# Altium footprint library CB3-ECB_PCB.PcbLib: 45 footprints (part 2 of 3)
Each footprint in its own frame and in the unit in brackets; x right, y up, seen from the top. Pads: shape width x height; smd on the part's side, far side on the other; paste and mask are expansions set on the pad; w line width, h text height; cw(c..) or ccw(c..) is an arc to the next point about the centre after c.
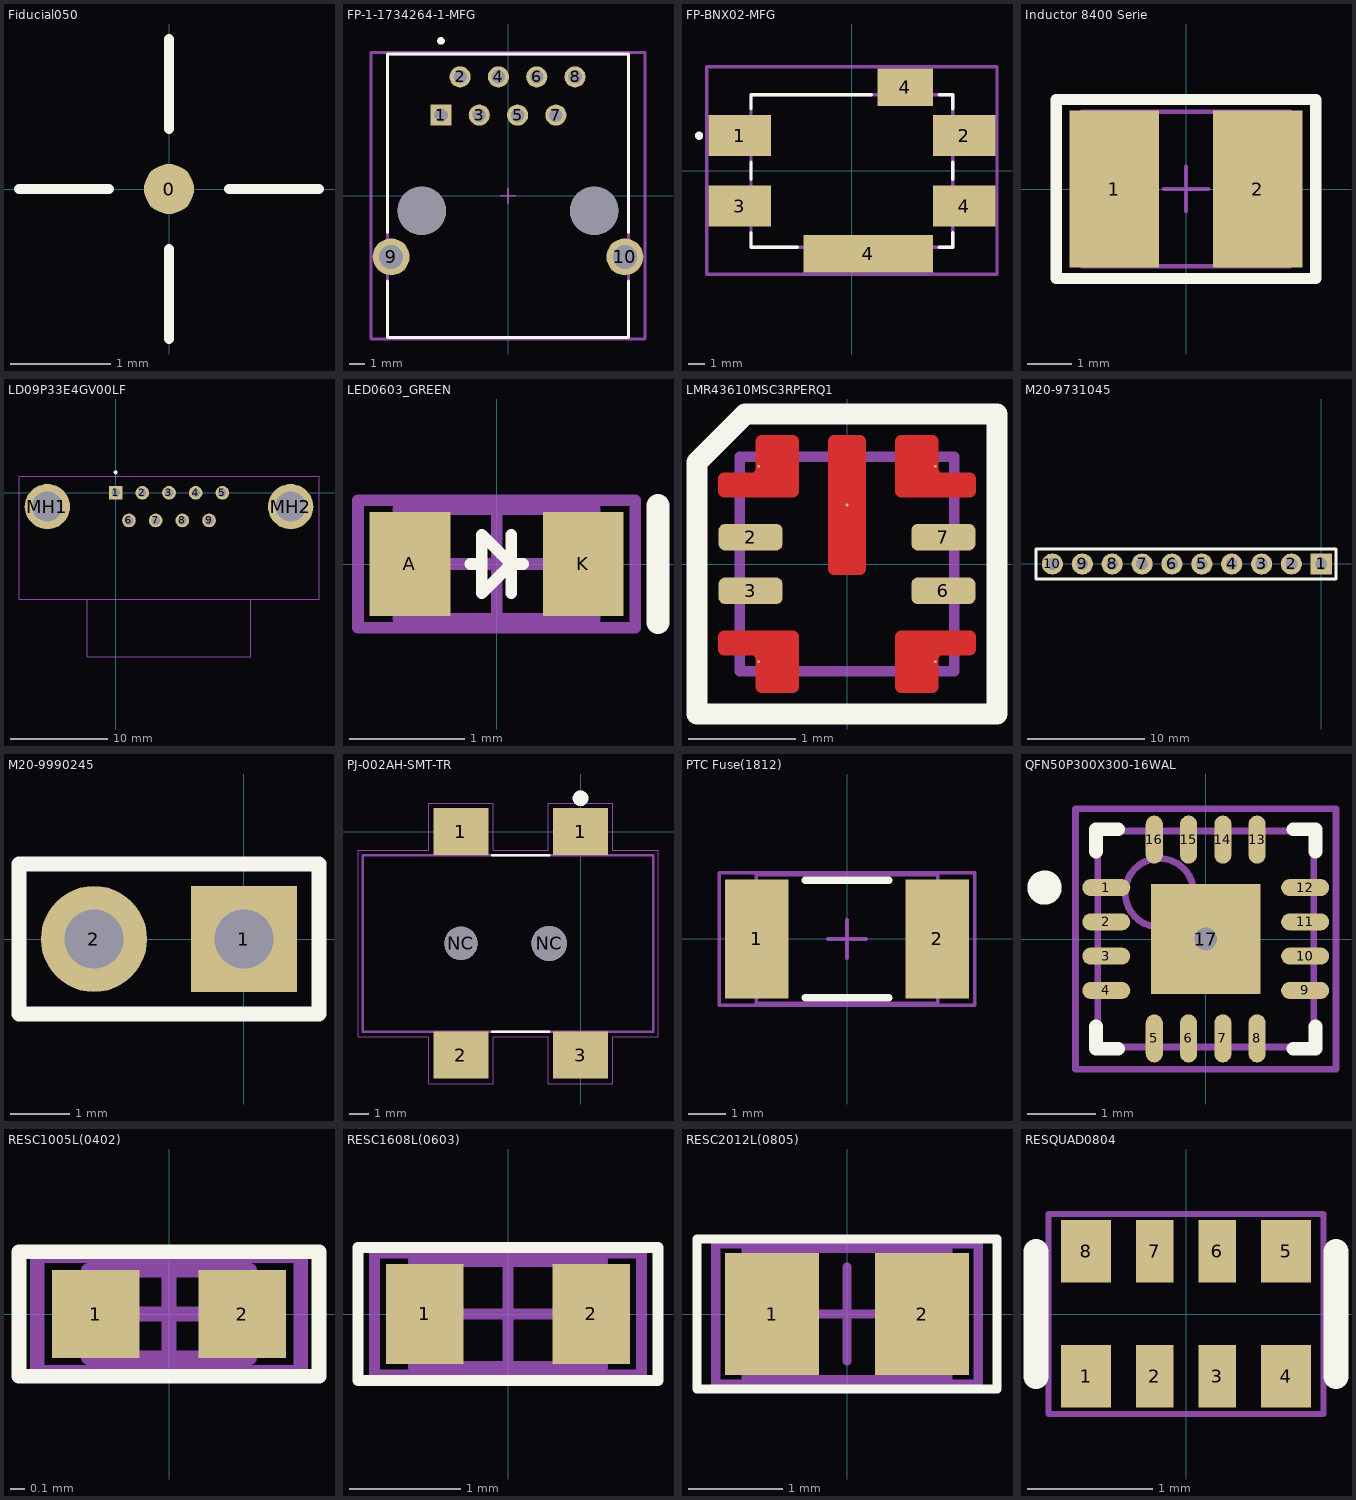
[diagram p1: the footprints below, top view; thin cyan lines are the x and y axes]

## Fiducial050 [mm] "Fiducial for pick&place, Diameter 0.5mm"
pads (1):
  round 0.5 smd mask+0.5: 0(0,0)
Top Overlay:
  lines w0.1: -1.5,0 -0.6,0 ; 0,-1.5 0,-0.6 ; 0,0.6 0,1.5 ; 0.6,0 1.5,0

## FP-1-1734264-1-MFG [mm]
pads (12):
  rect 1.4x1.4 hole 0.9 paste-2539.97 mask+0: 1(-4.445,5.35)
  round 1.4 hole 0.9 paste-2539.97 mask+0: 2(-3.175,7.89) 3(-1.905,5.35) 4(-0.635,7.89) 5(0.635,5.35) 6(1.905,7.89) 7(3.175,5.35) 8(4.445,7.89)
  round 2.45 hole 1.6 paste-2539.97 mask+0: 9(-7.75,-4.05) 10(7.75,-4.05)
  round 3.2 hole 3.2 unplated paste-2539.97 mask+0: ""(-5.715,-1) ""(5.715,-1)
Top Overlay:
  circle w0.25: c-4.445,10.275 r0.125
  lines w0.2: -8,-5.65 -8,-9.4 8,-9.4 8,-5.65 ; -8,-2.45 -8,9.4 8,9.4 8,-2.45
Top Assembly:
  lines w0.2: -9.075,-9.5 -9.075,9.5 9.075,9.5 9.075,-9.5 -9.075,-9.5
  text ".Designator" at 0,0.188 h1
Top 3D Body:
  lines w0.2: -8,-9.4 -8,9.4 8,9.4 8,-9.4 -8,-9.4
Top Courtyard:
  lines w0.2: -9.075,-9.5 -9.075,9.5 9.075,9.5 9.075,-9.5 -9.075,-9.5
Top Component Center:
  lines w0.1: -0.5,0 0.5,0 ; 0,-0.5 0,0.5
3D body "Conn_TE_Connectivity_1-1734264-1_eec.STEP": height 0.25, standoff 0, extent -9.075,-9.5 9.075,9.5

## FP-BNX02-MFG [mm] "BNX02 Package"
pads (6):
  rect 3.8x2.5 smd paste+0 mask+0: 1(-6.85,2.15) 2(6.85,2.15) 3(-6.85,-2.15) 4(6.85,-2.15)
  rect 7.9x2.3 smd paste+0 mask+0: 4(1,-5.05)
  rect 3.4x2.3 smd paste+0 mask+0: 4(3.25,5.1)
Top Overlay:
  circle w0.25: c-9.325,2.15 r0.125
  lines w0.2: -6.15,-3.775 -6.15,-4.65 -3.325,-4.65 ; -6.15,-0.525 -6.15,0.525 ; -6.15,3.775 -6.15,4.65 1.175,4.65 ; 5.325,-4.65 6.15,-4.65 6.15,-3.775 ; 5.325,4.65 6.15,4.65 6.15,3.775 ; 6.15,-0.525 6.15,0.525
Mechanical 13:
  lines w0.2: -6.15,-4.65 6.15,-4.65 6.15,4.65 -6.15,4.65 -6.15,-4.65
Mechanical 15:
  lines w0.2: -8.85,-6.3 -8.85,6.35 8.85,6.35 8.85,-6.3 -8.85,-6.3
3D body "Filter_Murata_BNX029-01K_eec.STEP": height 3.35, standoff 0, extent -6.05,-4.55 6.05,4.55

## Inductor 8400 Serie [mm] "Precision Wire Wound Inductor, 2-Leads, Body 4.50x3.30mm"
height 2.6
pads (2):
  rect 2x3.5 smd: 1(-1.6,0) 2(1.6,0)
Top Overlay:
  lines w0.254: -2.9,-2 2.9,-2 2.9,2 -2.9,2 -2.9,-2
Mechanical 13:
  lines w0.1: -2.325,-1.725 -2.325,1.725 2.325,1.725 2.325,-1.725 -2.325,-1.725
Mechanical 15:
  lines w0.05: -2.9,-2 -2.9,2 2.9,2 2.9,-2 -2.9,-2
  lines w0.1: -0.5,0 0.5,0 ; 0,-0.5 0,0.5
3D body: height 2.6, standoff 0, extent -2.325,-1.725 2.325,1.725

## LD09P33E4GV00LF [mm] "Conn D-Subminiature PIN 9 POS 2.74mm Solder RA Thru-Hole 9 Terminal 1 Port"
pads (11):
  rect 1.4x1.4 hole 0.9: 1(0,0)
  round 1.4 hole 0.9: 2(2.74,0) 3(5.48,0) 4(8.22,0) 5(10.96,0) 6(1.37,-2.84) 7(4.11,-2.84) 8(6.85,-2.84) 9(9.59,-2.84)
  round 4.65 hole 3.1: MH1(-7.015,-1.42) MH2(17.975,-1.42)
Top Overlay:
  circle w0.2: c0,2.1 r0.1
Mechanical 15:
  lines w0.1: -2.915,-10.92 -2.915,-16.82 13.875,-16.82 13.875,-10.92 ; -9.925,-10.92 20.885,-10.92 20.885,1.68 -9.925,1.68 -9.925,-10.92
3D body "LD09P33E4GV00LF.stp": height 12.55, standoff -3.2, extent -9.944,-17.15 20.866,1.7

## LED0603_GREEN [mm] "General LED (green) 0603 Footprint"
height 0.6
pads (2):
  rect 0.7x0.9 smd: A(-0.75,0) K(0.75,0)
Top Overlay:
  lines w0.1: -0.229,0 -0.127,0 ; 0.127,-0.254 0.127,0 ; 0.127,0.254 0.127,0 ; 0.229,0 0.127,0 ; 0.127,0 -0.127,-0.254 -0.127,0.254 0.127,0
  lines w0.2: 1.397,-0.508 1.397,0.508
Mechanical 13:
  lines w0.1: -0.85,-0.475 -0.85,0.475 0.85,0.475 0.85,-0.475 -0.85,-0.475
Mechanical 15:
  lines w0.1: -0.475,0 0.475,0 ; 0,-0.475 0,0.475 ; -1.2,-0.55 -1.2,0.55 1.2,0.55 1.2,-0.55 -1.2,-0.55
3D body: height 0.6, standoff 0, extent -0.85,-0.475 0.85,0.475

## LMR43610MSC3RPERQ1 [mm]
height 1
pads (9):
  round 0.025 smd paste+0: 1(-0.825,0.913) 8(0.825,0.913) 9(0,0.55)
  rrect50% 0.6x0.25 smd paste+0: 2(-0.9,0.25) 3(-0.9,-0.25) 6(0.9,-0.25) 7(0.9,0.25)
  round 0.025 smd: 4(-0.825,-0.913) 5(0.825,-0.913)
Top Layer:
  region: -1.2,-0.675 -1.2,-0.8 -1.2,-0.81 -1.192,-0.828 -1.178,-0.842 -1.16,-0.85 -1.15,-0.85 -0.9,-0.85 -0.89,-0.851 -0.872,-0.858 -0.858,-0.872 -0.851,-0.89 -0.85,-0.9 -0.85,-1.15 -0.85,-1.16 -0.842,-1.178 -0.828,-1.192 -0.81,-1.2 -0.8,-1.2 -0.5,-1.2 -0.49,-1.2 -0.472,-1.192 -0.458,-1.178 -0.45,-1.16 -0.45,-1.15 -0.45,-0.675 -0.45,-0.665 -0.458,-0.647 -0.472,-0.633 -0.49,-0.625 -0.5,-0.625 -1.15,-0.625 -1.16,-0.625 -1.178,-0.633 -1.192,-0.647 -1.2,-0.665
  region: 1.2,-0.675 1.2,-0.8 1.2,-0.81 1.192,-0.828 1.178,-0.842 1.16,-0.85 1.15,-0.85 0.9,-0.85 0.89,-0.851 0.872,-0.858 0.858,-0.872 0.851,-0.89 0.85,-0.9 0.85,-1.15 0.85,-1.16 0.842,-1.178 0.828,-1.192 0.81,-1.2 0.8,-1.2 0.5,-1.2 0.49,-1.2 0.472,-1.192 0.458,-1.178 0.45,-1.16 0.45,-1.15 0.45,-0.675 0.45,-0.665 0.458,-0.647 0.472,-0.633 0.49,-0.625 0.5,-0.625 1.15,-0.625 1.16,-0.625 1.178,-0.633 1.192,-0.647 1.2,-0.665
  region: 1.2,0.675 1.2,0.8 1.2,0.81 1.192,0.828 1.178,0.842 1.16,0.85 1.15,0.85 0.9,0.85 0.89,0.851 0.872,0.858 0.858,0.872 0.851,0.89 0.85,0.9 0.85,1.15 0.85,1.16 0.842,1.178 0.828,1.192 0.81,1.2 0.8,1.2 0.5,1.2 0.49,1.2 0.472,1.192 0.458,1.178 0.45,1.16 0.45,1.15 0.45,0.675 0.45,0.665 0.458,0.647 0.472,0.633 0.49,0.625 0.5,0.625 1.15,0.625 1.16,0.625 1.178,0.633 1.192,0.647 1.2,0.665
  region: -1.2,0.675 -1.2,0.8 -1.2,0.81 -1.192,0.828 -1.178,0.842 -1.16,0.85 -1.15,0.85 -0.9,0.85 -0.89,0.851 -0.872,0.858 -0.858,0.872 -0.851,0.89 -0.85,0.9 -0.85,1.15 -0.85,1.16 -0.842,1.178 -0.828,1.192 -0.81,1.2 -0.8,1.2 -0.5,1.2 -0.49,1.2 -0.472,1.192 -0.458,1.178 -0.45,1.16 -0.45,1.15 -0.45,0.675 -0.45,0.665 -0.458,0.647 -0.472,0.633 -0.49,0.625 -0.5,0.625 -1.15,0.625 -1.16,0.625 -1.178,0.633 -1.192,0.647 -1.2,0.665
  region: -0.125,-0.1 -0.135,-0.1 -0.153,-0.092 -0.167,-0.078 -0.175,-0.06 -0.175,-0.05 -0.175,1.15 -0.175,1.16 -0.167,1.178 -0.153,1.192 -0.135,1.2 -0.125,1.2 0.125,1.2 0.135,1.2 0.153,1.192 0.167,1.178 0.175,1.16 0.175,1.15 0.175,-0.05 0.175,-0.06 0.167,-0.078 0.153,-0.092 0.135,-0.1 0.125,-0.1
Top Overlay:
  lines w0.2: -1.4,-1.4 1.4,-1.4 1.4,1.4 -0.95,1.4 -1.4,0.95 -1.4,-1.4
Top Paste:
  region: 1.2,0.675 1.2,0.8 1.2,0.81 1.192,0.828 1.178,0.842 1.16,0.85 1.15,0.85 0.9,0.85 0.89,0.851 0.872,0.858 0.858,0.872 0.851,0.89 0.85,0.9 0.85,1.075 0.85,1.085 0.842,1.103 0.828,1.117 0.81,1.125 0.8,1.125 0.5,1.125 0.49,1.125 0.472,1.117 0.458,1.103 0.45,1.085 0.45,1.075 0.45,0.675 0.45,0.665 0.458,0.647 0.472,0.633 0.49,0.625 0.5,0.625 1.15,0.625 1.16,0.625 1.178,0.633 1.192,0.647 1.2,0.665
  region: -1.2,0.675 -1.2,0.8 -1.2,0.81 -1.192,0.828 -1.178,0.842 -1.16,0.85 -1.15,0.85 -0.9,0.85 -0.89,0.851 -0.872,0.858 -0.858,0.872 -0.851,0.89 -0.85,0.9 -0.85,1.075 -0.85,1.085 -0.842,1.103 -0.828,1.117 -0.81,1.125 -0.8,1.125 -0.5,1.125 -0.49,1.125 -0.472,1.117 -0.458,1.103 -0.45,1.085 -0.45,1.075 -0.45,0.675 -0.45,0.665 -0.458,0.647 -0.472,0.633 -0.49,0.625 -0.5,0.625 -1.15,0.625 -1.16,0.625 -1.178,0.633 -1.192,0.647 -1.2,0.665
  region: -0.125,-0.1 -0.135,-0.1 -0.153,-0.092 -0.167,-0.078 -0.175,-0.06 -0.175,-0.05 -0.175,0.4 -0.175,0.41 -0.167,0.428 -0.153,0.442 -0.135,0.45 -0.125,0.45 0.125,0.45 0.135,0.45 0.153,0.442 0.167,0.428 0.175,0.41 0.175,0.4 0.175,-0.05 0.175,-0.06 0.167,-0.078 0.153,-0.092 0.135,-0.1 0.125,-0.1
  region: -0.125,0.65 -0.135,0.65 -0.153,0.658 -0.167,0.672 -0.175,0.69 -0.175,0.7 -0.175,1.15 -0.175,1.16 -0.167,1.178 -0.153,1.192 -0.135,1.2 -0.125,1.2 0.125,1.2 0.135,1.2 0.153,1.192 0.167,1.178 0.175,1.16 0.175,1.15 0.175,0.7 0.175,0.69 0.167,0.672 0.153,0.658 0.135,0.65 0.125,0.65
Mechanical 13:
  lines w0.1: -1,-1 1,-1 1,1 -1,1 -1,-1
3D body: height 1, standoff 0, extent -1,-1 1,1

## M20-9731045 [mm] "Connector Header Through Hole 10 position 0.100\" (2.54mm)"
pads (10):
  rect 1.8x1.8 hole 1: 1(0,0)
  round 1.8 hole 1: 2(-2.54,0) 3(-5.08,0) 4(-7.62,0) 5(-10.16,0) 6(-12.7,0) 7(-15.24,0) 8(-17.78,0) 9(-20.32,0) 10(-22.86,0)
Top Overlay:
  lines w0.254: -24.257,-1.27 -24.257,1.27 1.25,1.27 1.25,-1.27 -24.257,-1.27
3D body "M20-9991046.stp": height 8.74, standoff -3, extent -24.13,-1.27 1.27,1.27

## M20-9990245 [mm] "Connector Header Through Hole 2 position 0.100\" (2.54mm)"
pads (2):
  rect 1.8x1.8 hole 1: 1(0,0)
  round 1.8 hole 1: 2(-2.54,0)
Top Overlay:
  lines w0.254: -3.81,-1.27 -3.81,1.27 1.27,1.27 1.27,-1.27 -3.81,-1.27
3D body "M20-9990246.stp": height 8.74, standoff -3, extent -3.81,-1.27 1.27,1.27

## PJ-002AH-SMT-TR [mm] "2.0 x 6.5 mm, 5.0 A, Horizontal, Surface Mount (SMT), Dc Power Jack Connector"
pads (6):
  rect 2.8x2.4 smd: 1(-6.1,0) 1(0,0) 3(0,-11.4)
  rect 2.8x2.4 smd mask+0: 2(-6.1,-11.4)
  round 1.7 hole 1.7 unplated: NC(-6.1,-5.7)
  round 1.8 hole 1.8 unplated: NC(-1.6,-5.7)
Top Overlay:
  circle w0.4: c0,1.7 r0.2
  lines w0.127: -4.5,-10.2 -1.6,-10.2 ; -4.5,-1.2 -1.6,-1.2
Mechanical 13:
  lines w0.127: -11.1,-10.2 3.7,-10.2 3.7,-1.2 -11.1,-1.2 -11.1,-10.2
Mechanical 15:
  lines w0.05: -11.35,-10.45 -11.35,-0.95 -7.75,-0.95 -7.75,1.45 -4.45,1.45 -4.45,-0.95 -1.65,-0.95 -1.65,1.45 1.65,1.45 1.65,-0.95 3.95,-0.95 3.95,-10.45 1.65,-10.45 1.65,-12.85 -1.65,-12.85 -1.65,-10.45 -4.45,-10.45 -4.45,-12.85 -7.75,-12.85 -7.75,-10.45 -11.35,-10.45
3D body "CUI_INC_PJ-002AH-SMT-TR.step": height 11, standoff -1.2, extent -11.1,-12 3.7,0.6

## PTC Fuse(1812) [mm] "1812 PTC Fuse Footprint, Body 4.5x3.2mm, IPC High Density"
height 0.5
pads (2):
  rect 1.68x3.15 smd: 1(-2.39,0) 2(2.39,0)
Top Overlay:
  lines w0.2: -1.1,-1.55 1.1,-1.55 ; -1.1,1.55 1.1,1.55
Mechanical 13:
  lines w0.1: -2.4,-1.7 2.4,-1.7 2.4,1.7 -2.4,1.7 -2.4,-1.7
Mechanical 15:
  lines w0.1: -0.5,0 0.5,0 ; 0,-0.5 0,0.5 ; -3.375,-1.75 3.375,-1.75 3.375,1.75 -3.375,1.75 -3.375,-1.75
3D body: height 0.7, standoff 0, extent -2.4,-1.7 2.4,1.7

## QFN50P300X300-16WAL [mm] "General QFN Footprint, 16-Leads, Body 3.00x3.00mm, Pitch 0.50mm, Thermal Pad 1.60x1.60mm, IPC High Density"
pads (17):
  oval 0.7x0.25 smd: 1(-1.45,0.75) 2(-1.45,0.25) 3(-1.45,-0.25) 4(-1.45,-0.75) 9(1.45,-0.75) 10(1.45,-0.25) 11(1.45,0.25) 12(1.45,0.75)
  oval 0.25x0.7 smd: 5(-0.75,-1.45) 6(-0.25,-1.45) 7(0.25,-1.45) 8(0.75,-1.45) 13(0.75,1.45) 14(0.25,1.45) 15(-0.25,1.45) 16(-0.75,1.45)
  rect 1.6x1.6 smd: 17(0,0)
via 0,0 diameter 0.66 hole 0.33
Top Overlay:
  circle w0.25: c-2.35,0.75 r0.125
  lines w0.2: -1.6,-1.275 -1.6,-1.6 -1.275,-1.6 ; -1.6,1.275 -1.6,1.6 -1.275,1.6 ; 1.275,-1.6 1.6,-1.6 1.6,-1.275 ; 1.275,1.6 1.6,1.6 1.6,1.275
Mechanical 13:
  circle w0.1: c-0.675,0.675 r0.5
  lines w0.1: -1.575,-1.575 -1.575,1.575 1.575,1.575 1.575,-1.575 -1.575,-1.575
Mechanical 15:
  lines w0.1: -0.5,0 0.5,0 ; 0,-0.5 0,0.5 ; -1.9,-1.9 -1.9,1.9 1.9,1.9 1.9,-1.9 -1.9,-1.9
3D body: height 0.8, standoff 0, extent -1.575,-1.575 1.575,1.575

## RESC1005L(0402) [mm] "General 0402 Resistor Footprint, Body 1.1x0.5mm, IPC High Density"
pads (2):
  rect 0.6x0.6 smd: 1(-0.5,0) 2(0.5,0)
Top Overlay:
  lines w0.1: -1.025,-0.425 1.025,-0.425 1.025,0.425 -1.025,0.425 -1.025,-0.425
Mechanical 13:
  lines w0.1: -0.55,-0.3 0.55,-0.3 0.55,0.3 -0.55,0.3 -0.55,-0.3
Mechanical 15:
  lines w0.1: -0.3,0 0.3,0 ; 0,-0.3 0,0.3 ; -0.9,-0.4 0.9,-0.4 0.9,0.4 -0.9,0.4 -0.9,-0.4
3D body: height 0.4, standoff 0, extent -0.55,-0.3 0.55,0.3

## RESC1608L(0603) [mm] "General 0603 Resistor Footprint, Body 1.6x0.8mm, IPC High Density"
pads (2):
  rect 0.7x0.9 smd: 1(-0.75,0) 2(0.75,0)
Top Overlay:
  lines w0.1: -1.35,-0.6 -1.35,0.6 1.35,0.6 1.35,-0.6 -1.35,-0.6
Mechanical 13:
  lines w0.1: -0.85,-0.475 -0.85,0.475 0.85,0.475 0.85,-0.475 -0.85,-0.475
Mechanical 15:
  lines w0.1: -0.475,0 0.475,0 ; 0,-0.475 0,0.475 ; -1.2,-0.55 -1.2,0.55 1.2,0.55 1.2,-0.55 -1.2,-0.55
3D body: height 0.6, standoff 0, extent -0.85,-0.475 0.85,0.475

## RESC2012L(0805) [mm] "General 0805 Resistor Footprint, Body 2.0x1.3mm, IPC High Density"
pads (2):
  rect 1x1.3 smd: 1(-0.8,0) 2(0.8,0)
Top Overlay:
  lines w0.1: -1.6,-0.8 1.6,-0.8 1.6,0.8 -1.6,0.8 -1.6,-0.8
Mechanical 13:
  lines w0.1: -1.075,-0.7 1.075,-0.7 1.075,0.7 -1.075,0.7 -1.075,-0.7
Mechanical 15:
  lines w0.1: -0.5,0 0.5,0 ; 0,-0.5 0,0.5 ; -1.4,-0.75 1.4,-0.75 1.4,0.75 -1.4,0.75 -1.4,-0.75
3D body: height 0.65, standoff 0, extent -1.075,-0.7 1.075,0.7

## RESQUAD0804 [mm] "General 0804 Quad Resisor Array Footprint, Body 2.0x1.2mm"
pads (8):
  rect 0.4x0.5 smd: 1(-0.8,-0.5) 4(0.8,-0.5) 5(0.8,0.5) 8(-0.8,0.5)
  rect 0.3x0.5 smd: 2(-0.25,-0.5) 3(0.25,-0.5) 6(0.25,0.5) 7(-0.25,0.5)
Top Overlay:
  lines w0.2: -1.2,-0.5 -1.2,0.5 ; 1.2,-0.5 1.2,0.5
Mechanical 15:
  lines w0.051: -1.1,-0.8 -1.1,0.8 1.1,0.8 1.1,-0.8 -1.1,-0.8
3D body: height 0.4, standoff 0, extent -1,-0.5 1,0.5